# EAGLE library part PHB_1MM27_2X34_?_S (library _hhn_con_pinhead_box_1mm27)
Pin Header Box-Type, 1.27mm/0.5"/50mil Pitch, 2x34 Circuits, single gates in schematic Note: see library description for an important note about THT-version
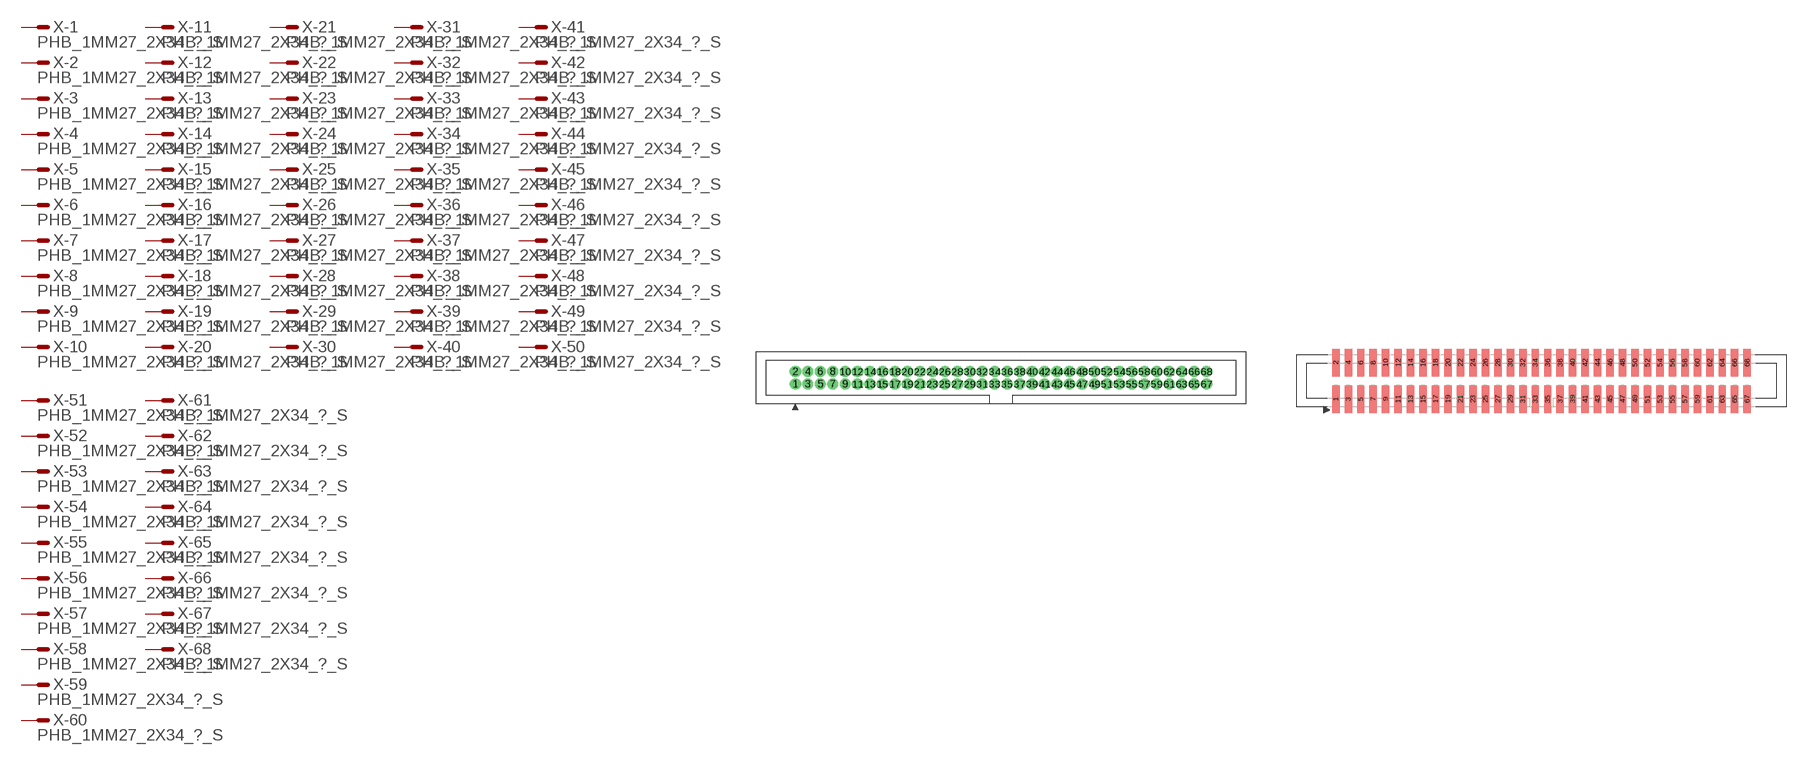
[diagram p21: symbol with the pads of PHB_1MM27_2X34_SNT; footprints PHB_1MM27_2X34_SNT, PHB_1MM27_2X34_SNS]

Designator prefix X; gates -1=M -2=M -3=M -4=M -5=M -6=M -7=M -8=M -9=M -10=M -11=M -12=M -13=M -14=M -15=M -16=M -17=M -18=M -19=M -20=M -21=M -22=M -23=M -24=M -25=M -26=M -27=M -28=M -29=M -30=M -31=M -32=M -33=M -34=M -35=M -36=M -37=M -38=M -39=M -40=M -41=M -42=M -43=M -44=M -45=M -46=M -47=M -48=M -49=M -50=M -51=M -52=M -53=M -54=M -55=M -56=M -57=M -58=M -59=M -60=M -61=M -62=M -63=M -64=M -65=M -66=M -67=M -68=M

## PHB_1MM27_2X34_SNT_S  [PHB_1MM27_2X34_SNT]
1  -1:S  pas
2  -2:S  pas
3  -3:S  pas
4  -4:S  pas
5  -5:S  pas
6  -6:S  pas
7  -7:S  pas
8  -8:S  pas
9  -9:S  pas
10  -10:S  pas
11  -11:S  pas
12  -12:S  pas
13  -13:S  pas
14  -14:S  pas
15  -15:S  pas
16  -16:S  pas
17  -17:S  pas
18  -18:S  pas
19  -19:S  pas
20  -20:S  pas
21  -21:S  pas
22  -22:S  pas
23  -23:S  pas
24  -24:S  pas
25  -25:S  pas
26  -26:S  pas
27  -27:S  pas
28  -28:S  pas
29  -29:S  pas
30  -30:S  pas
31  -31:S  pas
32  -32:S  pas
33  -33:S  pas
34  -34:S  pas
35  -35:S  pas
36  -36:S  pas
37  -37:S  pas
38  -38:S  pas
39  -39:S  pas
40  -40:S  pas
41  -41:S  pas
42  -42:S  pas
43  -43:S  pas
44  -44:S  pas
45  -45:S  pas
46  -46:S  pas
47  -47:S  pas
48  -48:S  pas
49  -49:S  pas
50  -50:S  pas
51  -51:S  pas
52  -52:S  pas
53  -53:S  pas
54  -54:S  pas
55  -55:S  pas
56  -56:S  pas
57  -57:S  pas
58  -58:S  pas
59  -59:S  pas
60  -60:S  pas
61  -61:S  pas
62  -62:S  pas
63  -63:S  pas
64  -64:S  pas
65  -65:S  pas
66  -66:S  pas
67  -67:S  pas
68  -68:S  pas

## PHB_1MM27_2X34_SNS_S  [PHB_1MM27_2X34_SNS]
Pads as for PHB_1MM27_2X34_SNT

## Footprint PHB_1MM27_2X34_SNT (pad centres in mm)
Pin Header Box-Type, 1.27mm Pitch, 2x34 circuits, Straight, No Locking, THT Important Note regarding to THT-versions: see description of library
drill 0.65 round: 1 -20.955,-0.635; 2 -20.955,0.635; 3 -19.685,-0.635; 4 -19.685,0.635; 5 -18.415,-0.635; 6 -18.415,0.635; 7 -17.145,-0.635; 8 -17.145,0.635; 9 -15.875,-0.635; 10 -15.875,0.635; 11 -14.605,-0.635; 12 -14.605,0.635; 13 -13.335,-0.635; 14 -13.335,0.635; 15 -12.065,-0.635; 16 -12.065,0.635; 17 -10.795,-0.635; 18 -10.795,0.635; 19 -9.525,-0.635; 20 -9.525,0.635; 21 -8.255,-0.635; 22 -8.255,0.635; 23 -6.985,-0.635; 24 -6.985,0.635; 25 -5.715,-0.635; 26 -5.715,0.635; 27 -4.445,-0.635; 28 -4.445,0.635; 29 -3.175,-0.635; 30 -3.175,0.635; 31 -1.905,-0.635; 32 -1.905,0.635; 33 -0.635,-0.635; 34 -0.635,0.635; 35 0.635,-0.635; 36 0.635,0.635; 37 1.905,-0.635; 38 1.905,0.635; 39 3.175,-0.635; 40 3.175,0.635; 41 4.445,-0.635; 42 4.445,0.635; 43 5.715,-0.635; 44 5.715,0.635; 45 6.985,-0.635; 46 6.985,0.635; 47 8.255,-0.635; 48 8.255,0.635; 49 9.525,-0.635; 50 9.525,0.635; 51 10.795,-0.635; 52 10.795,0.635; 53 12.065,-0.635; 54 12.065,0.635; 55 13.335,-0.635; 56 13.335,0.635; 57 14.605,-0.635; 58 14.605,0.635; 59 15.875,-0.635; 60 15.875,0.635; 61 17.145,-0.635; 62 17.145,0.635; 63 18.415,-0.635; 64 18.415,0.635; 65 19.685,-0.635; 66 19.685,0.635; 67 20.955,-0.635; 68 20.955,0.635

## Footprint PHB_1MM27_2X34_SNS (pad centres in mm)
Pin Header Box-Type, 1.27mm Pitch, 2x34 circuits, Straight, No Locking, SMT
smd 0.76 x 2.8: 1 -20.955,-1.85; 2 -20.955,1.85; 3 -19.685,-1.85; 4 -19.685,1.85; 5 -18.415,-1.85; 6 -18.415,1.85; 7 -17.145,-1.85; 8 -17.145,1.85; 9 -15.875,-1.85; 10 -15.875,1.85; 11 -14.605,-1.85; 12 -14.605,1.85; 13 -13.335,-1.85; 14 -13.335,1.85; 15 -12.065,-1.85; 16 -12.065,1.85; 17 -10.795,-1.85; 18 -10.795,1.85; 19 -9.525,-1.85; 20 -9.525,1.85; 21 -8.255,-1.85; 22 -8.255,1.85; 23 -6.985,-1.85; 24 -6.985,1.85; 25 -5.715,-1.85; 26 -5.715,1.85; 27 -4.445,-1.85; 28 -4.445,1.85; 29 -3.175,-1.85; 30 -3.175,1.85; 31 -1.905,-1.85; 32 -1.905,1.85; 33 -0.635,-1.85; 34 -0.635,1.85; 35 0.635,-1.85; 36 0.635,1.85; 37 1.905,-1.85; 38 1.905,1.85; 39 3.175,-1.85; 40 3.175,1.85; 41 4.445,-1.85; 42 4.445,1.85; 43 5.715,-1.85; 44 5.715,1.85; 45 6.985,-1.85; 46 6.985,1.85; 47 8.255,-1.85; 48 8.255,1.85; 49 9.525,-1.85; 50 9.525,1.85; 51 10.795,-1.85; 52 10.795,1.85; 53 12.065,-1.85; 54 12.065,1.85; 55 13.335,-1.85; 56 13.335,1.85; 57 14.605,-1.85; 58 14.605,1.85; 59 15.875,-1.85; 60 15.875,1.85; 61 17.145,-1.85; 62 17.145,1.85; 63 18.415,-1.85; 64 18.415,1.85; 65 19.685,-1.85; 66 19.685,1.85; 67 20.955,-1.85; 68 20.955,1.85